# EAGLE library part 6250XX21721_62501021721 (library WR-BHD)
WR-BHD 2.00 mm Male Characteristics Rated current: 2 A Working Voltage: 250 V UL approval: E323964 UL94-V0 Applications Industrial Production lines Details see: www.we-online.com/components/products/WTB_WR_BHD_BOX_HEADER_2_00MM_MALE Updated by Ella 2026-09-16 2026 (C) Würth Elektronik
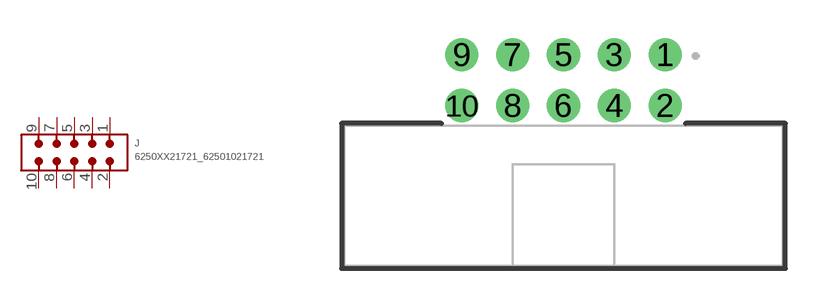
[diagram p207: symbol with the pads of 62501021721; footprint 62501021721]

Designator prefix J

## 6250XX21721_62501021721 (CATEGORY: Connectors; DATASHEET: https://www.we-online.com/redexpert/spec/62501021721?ae; GENDER: Male; LENGTH: 17.25 mm; MANUFACTURER: Würth Elektronik; MOUNT: THT; MPN: 62501021721; OPERATING_TEMPERATURE: -40 °C up to +105 °C; PACKAGING: Tray; PINS: 10; PITCH: 2mm; RATED_CURRENT: 2 A; SIZE: THT Angled; TYPE: Angled; VALUE: 62501021721)  [62501021721]
1  1  pas
2  2  pas
3  3  pas
4  4  pas
5  5  pas
6  6  pas
7  7  pas
8  8  pas
9  9  pas
10  10  pas

## Footprint 62501021721 (pad centres in mm)
WR-BHD Wire-to-Board Connectors, 2mm, Male, THT Angled, 10pins
drill 0.8: 1 4,5.55; 2 4,3.55; 3 2,5.55; 4 2,3.55; 5 0,5.55; 6 0,3.55; 7 -2,5.55; 8 -2,3.55; 9 -4,5.55; 10 -4,3.55